# Altium integrated library NSC Audio.IntLib: 301 symbols (part 7 of 8)
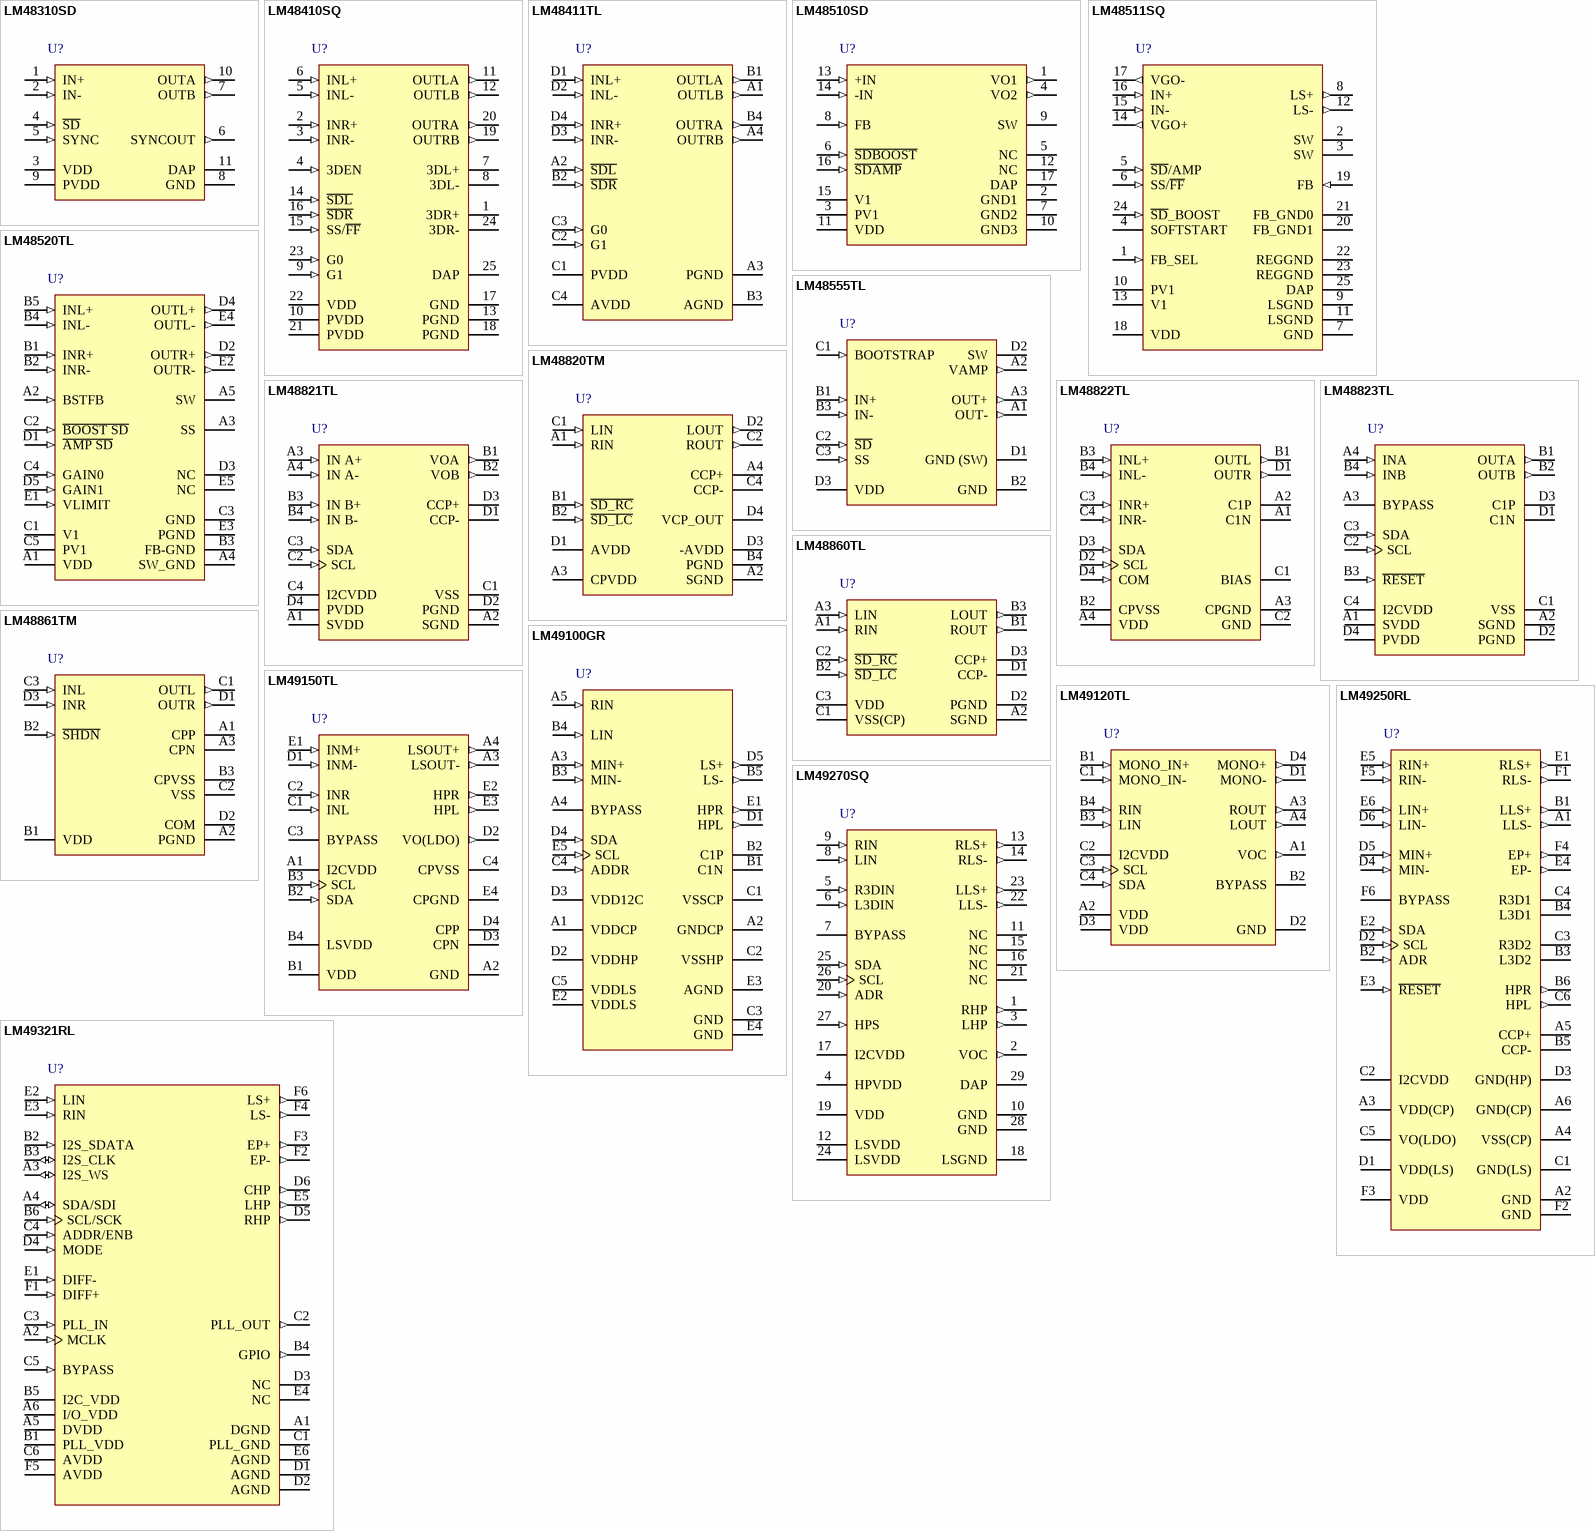
[diagram p18: symbols LM48310SD to LM49321RL]

## LM48410SQ
designator U?
Low EMI, Filterless, 2.3W Stereo Class D Audio Power Amplifier with National 3D Enhancement; PartNumber: LM48410SQ; Manufacturer: National Semiconductor; CompType: Audio IC; PackageTopMarking: NS*UZXYTT*L48410; Published: 4-Dec-2008; DatasheetVersion: Jul-2008; PackageVersion: revB, Aug-2003; PackageReference: SQA24A; PackageDescription: LLP, Plastic, Quad, 4 x 4 x 0.8mm Body, 24 Lead, 0.5mm Pitch, No Pullback; RoHS: Y; PinCount: 24; DigiKeyPartNumber: LM48410SQCT-ND; Code_JEDEC: MO-220-WGGD-6; ComponentLink1Description: LM48410 Datasheet; ComponentLink1URL: http://www.national.com/ds/LM/LM48410.pdf; ComponentLink2Description: LM48410 Web Page; ComponentLink2URL: http://www.national.com/pf/LM/LM48410.html; ComponentLink3Description: SQA24A Package Page; ComponentLink3URL: http://www.national.com/packaging/folders/sqa24a.html
footprint SQA24A (QFN, 24-Leads, Body 4x4mm, Pitch 0.5mm, NSC Recommended)
pins: 1 3DR+, 2 INR+ (in), 3 INR- (in), 4 3DEN (in), 5 INL- (in), 6 INL+ (in), 7 3DL+, 8 3DL-, 9 G1 (in), 10 PVDD (power), 11 OUTLA (out), 12 OUTLB (out), 13 PGND (power), 14 ~{SDL} (in), 15 SS/~{FF} (in), 16 ~{SDR} (in), 17 GND (power), 18 PGND (power), 19 OUTRB (out), 20 OUTRA (out), 21 PVDD (power), 22 VDD (power), 23 G0 (in), 24 3DR-, 25 DAP (power)

## LM48411TL
designator U?
Ultra-Low EMI, Filterless, 2.5W, Stereo, Class D Audio Power Amplifier with E 2 S; PartNumber: LM48411TL; Manufacturer: National Semiconductor; CompType: Audio IC; PackageTopMarking: XYTT*I GJ2; Published: 4-Dec-2008; DatasheetVersion: Jul-2008; PackageVersion: revC, Jan-2004; PackageReference: TLA16ACA; PackageDescription: Thin Micro SMD, 16 Bump (Large), 0.5mm Pitch; RoHS: Y; PinCount: 16; DigiKeyPartNumber: LM48411TLCT-ND; Code_JEDEC: MO-211-DF; ComponentLink1Description: LM48411 Datasheet; ComponentLink1URL: http://www.national.com/ds/LM/LM48411.pdf; ComponentLink2Description: LM48411 Web Page; ComponentLink2URL: http://www.national.com/pf/LM/LM48411.html; ComponentLink3Description: TLA16ACA Package Page; ComponentLink3URL: http://www.national.com/packaging/folders/tla16aca.html
footprint TLA16ACA (Micro SMD, 16-Leads, Body 2.05x2.0mm, Pitch 0.5mm, NSC Recommended)
pins: A1 OUTLB (out), A2 ~{SDL} (in), A3 PGND (power), A4 OUTRB (out), B1 OUTLA (out), B2 ~{SDR} (in), B3 AGND (power), B4 OUTRA (out), C1 PVDD (power), C2 G1 (in), C3 G0 (in), C4 AVDD (power), D1 INL+ (in), D2 INL- (in), D3 INR- (in), D4 INR+ (in)

## LM48510SD
designator U?
Boosted Class D Audio Power Amplifier; PartNumber: LM48510SD; Manufacturer: National Semiconductor; CompType: Audio IC; PackageTopMarking: NS*UZXYTT*L48510; Published: 4-Dec-2008; DatasheetVersion: Oct-2007; PackageVersion: revA, Dec-2004; PackageReference: SDA16B; PackageDescription: LLP, Plastic, Dual, 5 x 4 x 0.8mm, 16 Lead, 0.5mm Pitch, No Pullback; RoHS: Y; PinCount: 16; DigiKeyPartNumber: LM48510SDCT-ND; ComponentLink1Description: LM48510 Datasheet; ComponentLink1URL: http://www.national.com/ds/LM/LM48510.pdf; ComponentLink2Description: LM48510 Web Page; ComponentLink2URL: http://www.national.com/pf/LM/LM48510.html; ComponentLink3Description: SDA16B Package Page; ComponentLink3URL: http://www.national.com/packaging/folders/sda16b.html
footprint SDA16B (SON, 16-Leads, Body 5x4mm, Pitch 0.5mm, NSC Recommended)
pins: 1 VO1 (out), 2 GND1 (power), 3 PV1 (power), 4 VO2 (out), 5 NC, 6 ~{SDBOOST} (in), 7 GND2 (power), 8 FB (in), 9 SW, 10 GND3 (power), 11 VDD (power), 12 NC, 13 +IN (in), 14 -IN (in), 15 V1 (power), 16 ~{SDAMP} (in), 17 DAP (power)

## LM48511SQ
designator U?
3W, Ultra-Low EMI, Filterless, Mono, Class D Audio Power Amplifier with Spread  Spectrum; PartNumber: LM48511SQ; Manufacturer: National Semiconductor; CompType: Audio IC; PackageTopMarking: NS*UZXYTT*48511SQ; Published: 4-Dec-2008; DatasheetVersion: Feb-2008; PackageVersion: revA, Oct-2003; PackageReference: SQA24B; PackageDescription: LLP, Plastic, Quad, 5 x 4 x 0.8mm Body, 24 Lead, 0.5mm Pitch, No Pullback; RoHS: Y; PinCount: 24; DigiKeyPartNumber: LM48511SQCT-ND; Code_JEDEC: MO-220-WGHD-1; ComponentLink1Description: LM48511 Datasheet; ComponentLink1URL: http://www.national.com/ds/LM/LM48511.pdf; ComponentLink2Description: LM48511 Web Page; ComponentLink2URL: http://www.national.com/pf/LM/LM48511.html; ComponentLink3Description: SQA24B Package Page; ComponentLink3URL: http://www.national.com/packaging/folders/sqa24b.html
footprint SQA24B (QFN, 24-Leads, Body 5x4mm, Pitch 0.5mm, NSC Recommended)
pins: 1 FB_SEL (in), 2 SW (oc), 3 SW (oc), 4 SOFTSTART, 5 ~{SD}/AMP (in), 6 SS/~{FF} (in), 7 GND (power), 8 LS+ (out), 9 LSGND (power), 10 PV1 (power), 11 LSGND (power), 12 LS- (out), 13 V1 (power), 14 VGO+ (out), 15 IN- (in), 16 IN+ (in), 17 VGO- (out), 18 VDD (power), 19 FB (in), 20 FB_GND1 (power), 21 FB_GND0 (power), 22 REGGND (power), 23 REGGND (power), 24 ~{SD}_BOOST (in), 25 DAP (power)

## LM48520TL
designator U?
Boosted Stereo Class D Audio Power Amplifier with Output Speaker Protection and  Spread Spectrum; PartNumber: LM48520TL; Manufacturer: National Semiconductor; CompType: Audio IC; PackageTopMarking: XYTT*I GI5; Published: 4-Dec-2008; DatasheetVersion: Mar-2008; PackageVersion: revD, Dec-2003; PackageReference: TLA25AAA; PackageDescription: Thin Micro SMD, 25 Bump (Large), 0.5mm Pitch; RoHS: Y; PinCount: 25; DigiKeyPartNumber: LM48520TL-ND; Code_JEDEC: MO-211-DH; ComponentLink1Description: LM48520 Datasheet; ComponentLink1URL: http://www.national.com/ds/LM/LM48520.pdf; ComponentLink2Description: LM48520 Web Page; ComponentLink2URL: http://www.national.com/pf/LM/LM48520.html; ComponentLink3Description: TLA25AAA Package Page; ComponentLink3URL: http://www.national.com/packaging/folders/tla25aaa.html
footprint TLA25AAA (Micro SMD, 25-Leads, Body 2.49x2.49mm, Pitch 0.5mm, NSC Recommended)
pins: A1 VDD (power), A2 BSTFB (in), A3 SS, A4 SW_GND (power), A5 SW, B1 INR+ (in), B2 INR- (in), B3 FB-GND (power), B4 INL- (in), B5 INL+ (in), C1 V1 (power), C2 ~{BOOST SD} (in), C3 GND (power), C4 GAIN0 (in), C5 PV1 (power), D1 ~{AMP SD} (in), D2 OUTR+ (out), D3 NC, D4 OUTL+ (out), D5 GAIN1 (in), E1 VLIMIT (in), E2 OUTR- (out), E3 PGND (power), E4 OUTL- (out), E5 NC

## LM48555TL
designator U?
Ceramic Speaker Driver; PartNumber: LM48555TL; Manufacturer: National Semiconductor; CompType: Audio IC; PackageTopMarking: XVG*I I4; Published: 4-Dec-2008; DatasheetVersion: Mar-2007; PackageVersion: revC, Jan-2004; PackageReference: TLA12Z1A; PackageDescription: Thin Micro SMD, 12 Bump (Large), Area Array, 0.5mm Pitch; RoHS: Y; PinCount: 12; DigiKeyPartNumber: LM48555TLCT-ND; Code_JEDEC: MO-211-DE; ComponentLink1Description: LM48555 Datasheet; ComponentLink1URL: http://www.national.com/ds/LM/LM48555.pdf; ComponentLink2Description: LM48555 Web Page; ComponentLink2URL: http://www.national.com/pf/LM/LM48555.html; ComponentLink3Description: TLA12Z1A Package Page; ComponentLink3URL: http://www.national.com/packaging/folders/tla12z1a.html
footprint TLA12Z1A (Micro SMD, 12-Leads, Body 1.97x1.47mm, Pitch 0.5mm, NSC Recommended)
pins: A1 OUT- (out), A2 VAMP (out), A3 OUT+ (out), B1 IN+ (in), B2 GND (power), B3 IN- (in), C1 BOOTSTRAP (in), C2 ~{SD} (in), C3 SS (in), D1 GND (SW) (power), D2 SW (oc), D3 VDD (power)

## LM48820TM
designator U?
Ground-Referenced, Ultra Low Noise, Fixed Gain, 95mW Stereo Headphone Amplifier; PartNumber: LM48820TM; Manufacturer: National Semiconductor; CompType: Audio IC; PackageTopMarking: XYTT*I GI7; Published: 4-Dec-2008; DatasheetVersion: Jun-2007; PackageVersion: revA, 2007; PackageReference: TME14AAA; PackageDescription: Thin Micro SMD, Depopulated, 14 Bump, 0.4mm Pitch; RoHS: Y; PinCount: 14; DigiKeyPartNumber: LM48820TMCT-ND; ComponentLink1Description: LM48820 Datasheet; ComponentLink1URL: http://www.national.com/ds/LM/LM48820.pdf; ComponentLink2Description: LM48820 Web Page; ComponentLink2URL: http://www.national.com/pf/LM/LM48820.html; ComponentLink3Description: TME14AAA Package Page; ComponentLink3URL: http://www.national.com/packaging/folders/tme14aaa.html
footprint TME14AAA (Micro SMD, 14-Leads, Body 1.62x1.62mm, Pitch 0.4mm, NSC Recommended)
pins: A1 RIN (in), A2 SGND (power), A3 CPVDD (power), A4 CCP+, B1 ~{SD_RC} (in), B2 ~{SD_LC} (in), B4 PGND (power), C1 LIN (in), C2 ROUT (out), C4 CCP-, D1 AVDD (power), D2 LOUT (out), D3 -AVDD (power), D4 VCP_OUT (power)

## LM48821TL
designator U?
Direct Coupled, Ultra Low Noise, 52mW Differential Input Stereo Headphone Amplifier with I2C Volume Control; PartNumber: LM48821TL; Manufacturer: National Semiconductor; CompType: Audio IC; PackageTopMarking: XYTT*I G16; Published: 4-Dec-2008; DatasheetVersion: Jun-2007; PackageVersion: revC, Jan-2004; PackageReference: TLA1611A; PackageDescription: Thin Micro SMD, 16 Bump (Large), 0.5mm Pitch; RoHS: Y; PinCount: 16; DigiKeyPartNumber: LM48821TLCT-ND; Code_JEDEC: MO-211-DF; ComponentLink1Description: LM48821 Datasheet; ComponentLink1URL: http://www.national.com/ds/LM/LM48821.pdf; ComponentLink2Description: LM48821 Web Page; ComponentLink2URL: http://www.national.com/pf/LM/LM48821.html; ComponentLink3Description: TLA1611A Package Page; ComponentLink3URL: http://www.national.com/packaging/folders/tla1611a.html
footprint TLA1611A (Micro SMD, 16-Leads, Body 1.97x1.97mm, Pitch 0.5mm, NSC Recommended)
pins: A1 SVDD (power), A2 SGND (power), A3 IN A+ (in), A4 IN A- (in), B1 VOA (out), B2 VOB (out), B3 IN B+ (in), B4 IN B- (in), C1 VSS (power), C2 SCL (in), C3 SDA (in), C4 I2CVDD (power), D1 CCP-, D2 PGND (power), D3 CCP+, D4 PVDD (power)

## LM48822TL
designator U?
Ground-Referenced, Ultra-High PSRR, Ultra Low Noise, 35mW/Channel Stereo Headphone AMplifier with Common Mode Sense, and I2C Volume Control; PartNumber: LM48822TL; Manufacturer: National Semiconductor; CompType: Audio IC; PackageTopMarking: XYTT*I GK1; Published: 4-Dec-2008; DatasheetVersion: Jul-2008; PackageVersion: revC, Jan-2004; PackageReference: TLA1611A; PackageDescription: Thin Micro SMD, 16 Bump (Large), 0.5mm Pitch; RoHS: Y; PinCount: 16; DigiKeyPartNumber: LM48822TL-ND; Code_JEDEC: MO-211-DF; ComponentLink1Description: LM48822 Datasheet; ComponentLink1URL: http://www.national.com/ds/LM/LM48822.pdf; ComponentLink2Description: LM48822 Web Page; ComponentLink2URL: http://www.national.com/pf/LM/LM48822.html; ComponentLink3Description: TLA1611A Package Page; ComponentLink3URL: http://www.national.com/packaging/folders/tla1611a.html
footprint TLA1611A (Micro SMD, 16-Leads, Body 1.97x1.97mm, Pitch 0.5mm, NSC Recommended)
pins: A1 C1N, A2 C1P, A3 CPGND (power), A4 VDD (power), B1 OUTL (out), B2 CPVSS (power), B3 INL+ (in), B4 INL- (in), C1 BIAS (power), C2 GND (power), C3 INR+ (in), C4 INR- (in), D1 OUTR (out), D2 SCL (in), D3 SDA (in), D4 COM (in)

## LM48823TL
designator U?
Mono, Bridge-Tied Load, Ceramic Speaker Driver with I2C Volume Control and Reset; PartNumber: LM48823TL; Manufacturer: National Semiconductor; CompType: Audio IC; PackageTopMarking: XYTT*I GK6; Published: 4-Dec-2008; DatasheetVersion: Jul-2008; PackageVersion: revC, Jan-2004; PackageReference: TLA1611A; PackageDescription: Thin Micro SMD, 16 Bump (Large), 0.5mm Pitch; RoHS: Y; PinCount: 16; Code_JEDEC: MO-211-DF; ComponentLink1Description: LM48823 Datasheet; ComponentLink1URL: http://www.national.com/ds/LM/LM48823.pdf; ComponentLink2Description: LM48823 Web Page; ComponentLink2URL: http://www.national.com/pf/LM/LM48823.html; ComponentLink3Description: TLA1611A Package Page; ComponentLink3URL: http://www.national.com/packaging/folders/tla1611a.html
footprint TLA1611A (Micro SMD, 16-Leads, Body 1.97x1.97mm, Pitch 0.5mm, NSC Recommended)
pins: A1 SVDD (power), A2 SGND (power), A3 BYPASS, A4 INA (in), B1 OUTA (out), B2 OUTB (out), B3 ~{RESET} (in), B4 INB (in), C1 VSS (power), C2 SCL (in), C3 SDA (in), C4 I2CVDD (power), D1 C1N, D2 PGND (power), D3 C1P, D4 PVDD (power)

## LM48860TL
designator U?
Ground-Referenced, Ultra Low Noise, Fixed Gain Stereo Headphone Amplifier; PartNumber: LM48860TL; Manufacturer: National Semiconductor; CompType: Audio IC; PackageTopMarking: XYTT*I GJ7; Published: 4-Dec-2008; DatasheetVersion: Feb-2008; PackageVersion: revC, Jan-2004; PackageReference: TLA12Z1A; PackageDescription: Thin Micro SMD, 12 Bump (Large), Area Array, 0.5mm Pitch; RoHS: Y; PinCount: 12; DigiKeyPartNumber: LM48860TL-ND; Code_JEDEC: MO-211-DE; ComponentLink1Description: LM48860 Datasheet; ComponentLink1URL: http://www.national.com/ds/LM/LM48860.pdf; ComponentLink2Description: LM48860 Web Page; ComponentLink2URL: http://www.national.com/pf/LM/LM48860.html; ComponentLink3Description: TLA12Z1A Package Page; ComponentLink3URL: http://www.national.com/packaging/folders/tla12z1a.html
footprint TLA12Z1A (Micro SMD, 12-Leads, Body 1.97x1.47mm, Pitch 0.5mm, NSC Recommended)
pins: A1 RIN (in), A2 SGND (power), A3 LIN (in), B1 ROUT (out), B2 ~{SD_LC} (in), B3 LOUT (out), C1 VSS(CP) (power), C2 ~{SD_RC} (in), C3 VDD (power), D1 CCP-, D2 PGND (power), D3 CCP+

## LM48861TM
designator U?
PowerWise Ground-Referenced, Ultra Low Noise, Stereo Headphone Amplifier; PartNumber: LM48861TM; Manufacturer: National Semiconductor; CompType: Audio IC; PackageTopMarking: XVG*I K3; Published: 4-Dec-2008; DatasheetVersion: Jun-2008; PackageVersion: revA, 2008; PackageReference: TMD12AAA; PackageDescription: Thin Micro SMD, 12 Bump, 0.4mm Pitch; RoHS: Y; PinCount: 12; DigiKeyPartNumber: LM48861TMBD-ND; ComponentLink1Description: LM48861 Datasheet; ComponentLink1URL: http://www.national.com/ds/LM/LM48861.pdf; ComponentLink2Description: LM48861 Web Page; ComponentLink2URL: http://www.national.com/pf/LM/LM48861.html; ComponentLink3Description: TMD12AAA Package Page; ComponentLink3URL: http://www.national.com/packaging/folders/tmd12aaa.html
footprint TMD12AAA (Micro SMD, 12-Leads, Body 1.62x1.22mm, Pitch 0.4mm, NSC Recommended)
pins: A1 CPP, A2 PGND (power), A3 CPN, B1 VDD (power), B2 ~{SHDN} (in), B3 CPVSS (power), C1 OUTL (out), C2 VSS (power), C3 INL (in), D1 OUTR (out), D2 COM (power), D3 INR (in)

## LM49100GR
designator U?
Mono Class AB Audio Sub-System with a True-Ground Headphone Amplifier; PartNumber: LM49100GR; Manufacturer: National Semiconductor; CompType: Audio IC; PackageTopMarking: XYTT*GC9; Published: 4-Dec-2008; DatasheetVersion: Sep-2007; PackageVersion: revA, Mar-2004; PackageReference: GRA25A; PackageDescription: Micro-Array, 3x3x1mm Body, 25 Ball, 0.5mm Pitch; RoHS: Y; PinCount: 25; DigiKeyPartNumber: LM49100GRCT-ND; ComponentLink1Description: LM49100 Datasheet; ComponentLink1URL: http://www.national.com/ds/LM/LM49100.pdf; ComponentLink2Description: LM49100 Web Page; ComponentLink2URL: http://www.national.com/pf/LM/LM49100.html; ComponentLink3Description: GRA25A Package Page; ComponentLink3URL: http://www.national.com/packaging/folders/gra25a.html
footprint GRA25A (BGA, 25-Leads, Body 3x3mm, Pitch 0.5mm, NSC Recommended)
pins: A1 VDDCP (power), A2 GNDCP (power), A3 MIN+ (in), A4 BYPASS, A5 RIN (in), B1 C1N, B2 C1P, B3 MIN- (in), B4 LIN (in), B5 LS- (out), C1 VSSCP (power), C2 VSSHP (power), C3 GND (power), C4 ADDR (in), C5 VDDLS (power), D1 HPL (out), D2 VDDHP (power), D3 VDD12C (power), D4 SDA (in), D5 LS+ (out), E1 HPR (out), E2 VDDLS (power), E3 AGND (power), E4 GND (power), E5 SCL (in)

## LM49120TL
designator U?
Audio Sub-System with Mono Class AB Loudspeaker Amplifier and Stereo OCL/SE Headphone Amplifier; PartNumber: LM49120TL; Manufacturer: National Semiconductor; CompType: Audio IC; PackageTopMarking: XYTT*I GK2; Published: 4-Dec-2008; DatasheetVersion: Jul-2008; PackageVersion: revC, Jan-2004; PackageReference: TLA1611A; PackageDescription: Thin Micro SMD, 16 Bump (Large), 0.5mm Pitch; RoHS: Y; PinCount: 16; Code_JEDEC: MO-211-DF; ComponentLink1Description: LM49120 Datasheet; ComponentLink1URL: http://www.national.com/ds/LM/LM49120.pdf; ComponentLink2Description: LM49120 Web Page; ComponentLink2URL: http://www.national.com/pf/LM/LM49120.html; ComponentLink3Description: TLA1611A Package Page; ComponentLink3URL: http://www.national.com/packaging/folders/tla1611a.html
footprint TLA1611A (Micro SMD, 16-Leads, Body 1.97x1.97mm, Pitch 0.5mm, NSC Recommended)
pins: A1 VOC (out), A2 VDD (power), A3 ROUT (out), A4 LOUT (out), B1 MONO_IN+ (in), B2 BYPASS, B3 LIN (in), B4 RIN (in), C1 MONO_IN- (in), C2 I2CVDD (power), C3 SCL (in), C4 SDA (in), D1 MONO- (out), D2 GND (power), D3 VDD (power), D4 MONO+ (out)

## LM49150TL
designator U?
Mono Class D Audio Subsystem with Earpiece Driver and Stereo Ground Referenced Headphone Amplifiers; PartNumber: LM49150TL; Manufacturer: National Semiconductor; CompType: Audio IC; PackageTopMarking: XYTT*I GK7; Published: 4-Dec-2008; DatasheetVersion: Sep-2008; PackageVersion: revC, Jan-2004; PackageReference: TLA20KGA; PackageDescription: Thin Micro SMD, 20 Bump (Large), 0.5mm Pitch; RoHS: Y; PinCount: 20; Code_JEDEC: MO-211-DG; ComponentLink1Description: LM49150 Datasheet; ComponentLink1URL: http://www.national.com/ds/LM/LM49150.pdf; ComponentLink2Description: LM49150 Web Page; ComponentLink2URL: http://www.national.com/pf/LM/LM49150.html; ComponentLink3Description: TLA20KGA Package Page; ComponentLink3URL: http://www.national.com/packaging/folders/tla20kga.html
footprint TLA20KGA (Micro SMD, 20-Leads, Body 2.64x2.23mm, Pitch 0.5mm, NSC Recommended)
pins: A1 I2CVDD (power), A2 GND (power), A3 LSOUT- (out), A4 LSOUT+ (out), B1 VDD (power), B2 SDA (in), B3 SCL (in), B4 LSVDD (power), C1 INL (in), C2 INR (in), C3 BYPASS, C4 CPVSS (power), D1 INM- (in), D2 VO(LDO) (out), D3 CPN, D4 CPP, E1 INM+ (in), E2 HPR (out), E3 HPL (out), E4 CPGND (power)

## LM49250RL
designator U?
Enhanced Emissions Suppression Stereo Class D Audio Sub-System with Ground Referenced Headphone Amplifier; PartNumber: LM49250RL; Manufacturer: National Semiconductor; CompType: Audio IC; PackageTopMarking: XYTT*I GJ1; Published: 4-Dec-2008; DatasheetVersion: Jan-2008; PackageVersion: revA, 2008; PackageReference: RLA36CCA; PackageDescription: Micro SMDxt, 36 Bump (Large), 0.5mm Pitch; RoHS: Y; PinCount: 36; DigiKeyPartNumber: LM49250RL-ND; ComponentLink1Description: LM49250 Datasheet; ComponentLink1URL: http://www.national.com/ds/LM/LM49250.pdf; ComponentLink2Description: LM49250 Web Page; ComponentLink2URL: http://www.national.com/pf/LM/LM49250.html; ComponentLink3Description: RLA36CCA Package Page; ComponentLink3URL: http://www.national.com/packaging/folders/rla36cca.html
footprint RLA36CCA (Micro SMD, 36-Leads, Body 3.05x3.05mm, Pitch 0.5mm, NSC Recommended)
pins: A1 LLS- (out), A2 GND (power), A3 VDD(CP) (power), A4 VSS(CP) (power), A5 CCP+, A6 GND(CP) (power), B1 LLS+ (out), B2 ADR (in), B3 L3D2, B4 L3D1, B5 CCP-, B6 HPR (out), C1 GND(LS) (power), C2 I2CVDD (power), C3 R3D2, C4 R3D1, C5 VO(LDO) (power), C6 HPL (out), D1 VDD(LS) (power), D2 SCL (in), D3 GND(HP) (power), D4 MIN- (in), D5 MIN+ (in), D6 LIN- (in), E1 RLS+ (out), E2 SDA (in), E3 ~{RESET} (in), E4 EP- (out), E5 RIN+ (in), E6 LIN+ (in), F1 RLS- (out), F2 GND (power), F3 VDD (power), F4 EP+ (out), F5 RIN- (in), F6 BYPASS

## LM49270SQ
designator U?
Filterless 2.2W Class D Audio Subsystem with OCL Headphone Amplifier, 3D Enhancement, and Headphone Sense; PartNumber: LM49270SQ; Manufacturer: National Semiconductor; CompType: Audio IC; PackageTopMarking: NS*UZXYTT*49270SQ; Published: 4-Dec-2008; DatasheetVersion: Dec-2006; PackageVersion: revB, Aug-2003; PackageReference: SQA28A; PackageDescription: LLP, Plastic, Quad, 5 x 5 x 0.8mm Body, 28 Lead, 0.5mm Pitch, No Pullback; RoHS: Y; PinCount: 28; DigiKeyPartNumber: LM49270SQCT-ND; Code_JEDEC: MO-220-WHHD-3; ComponentLink1Description: LM49270 Datasheet; ComponentLink1URL: http://www.national.com/ds/LM/LM49270.pdf; ComponentLink2Description: LM49270 Web Page; ComponentLink2URL: http://www.national.com/pf/LM/LM49270.html; ComponentLink3Description: SQA28A Package Page; ComponentLink3URL: http://www.national.com/packaging/folders/sqa28a.html
footprint SQA28A (QFN, 28-Leads, Body 5x5mm, Pitch 0.5mm, NSC Recommended)
pins: 1 RHP (out), 2 VOC (out), 3 LHP (out), 4 HPVDD (power), 5 R3DIN (in), 6 L3DIN (in), 7 BYPASS, 8 LIN (in), 9 RIN (in), 10 GND (power), 11 NC, 12 LSVDD (power), 13 RLS+ (out), 14 RLS- (out), 15 NC, 16 NC, 17 I2CVDD (power), 18 LSGND (power), 19 VDD (power), 20 ADR (in), 21 NC, 22 LLS- (out), 23 LLS+ (out), 24 LSVDD (power), 25 SDA (in), 26 SCL (in), 27 HPS (in), 28 GND (power), 29 DAP (power)

## LM49321RL
designator U?
Audio Sub-System with Stereo DAC, Mono Class AB Loudspeaker Amplifier, OCL/SE Stereo Headphone Output and RF Suppression; PartNumber: LM49321RL; Manufacturer: National Semiconductor; CompType: Audio IC; PackageTopMarking: XYTT*I GK9; Published: 4-Dec-2008; DatasheetVersion: Sep-2008; PackageVersion: revA, 2007; PackageReference: RLA36LVA; PackageDescription: Micro SMDxt, 36 Bump (Large), 0.5mm Pitch; RoHS: Y; PinCount: 36; ComponentLink1Description: LM49321 Datasheet; ComponentLink1URL: http://www.national.com/ds/LM/LM49321.pdf; ComponentLink2Description: LM49321 Web Page; ComponentLink2URL: http://www.national.com/pf/LM/LM49321.html; ComponentLink3Description: RLA36LVA Package Page; ComponentLink3URL: http://www.national.com/packaging/folders/rla36lva.html
footprint RLA36LVA (Micro SMD, 36-Leads, Body 3.51x3.26mm, Pitch 0.5mm, NSC Recommended)
pins: A1 DGND (power), A2 MCLK (in), A3 I2S_WS (io), A4 SDA/SDI (io), A5 DVDD (power), A6 I/O_VDD (power), B1 PLL_VDD (power), B2 I2S_SDATA (in), B3 I2S_CLK (io), B4 GPIO (out), B5 I2C_VDD (power), B6 SCL/SCK (in), C1 PLL_GND (power), C2 PLL_OUT (out), C3 PLL_IN (in), C4 ADDR/ENB (in), C5 BYPASS (in), C6 AVDD (power), D1 AGND (power), D2 AGND (power), D3 NC, D4 MODE (in), D5 RHP (out), D6 CHP (out), E1 DIFF- (in), E2 LIN (in), E3 RIN (in), E4 NC, E5 LHP (out), E6 AGND (power), F1 DIFF+ (in), F2 EP- (out), F3 EP+ (out), F4 LS- (out), F5 AVDD (power), F6 LS+ (out)

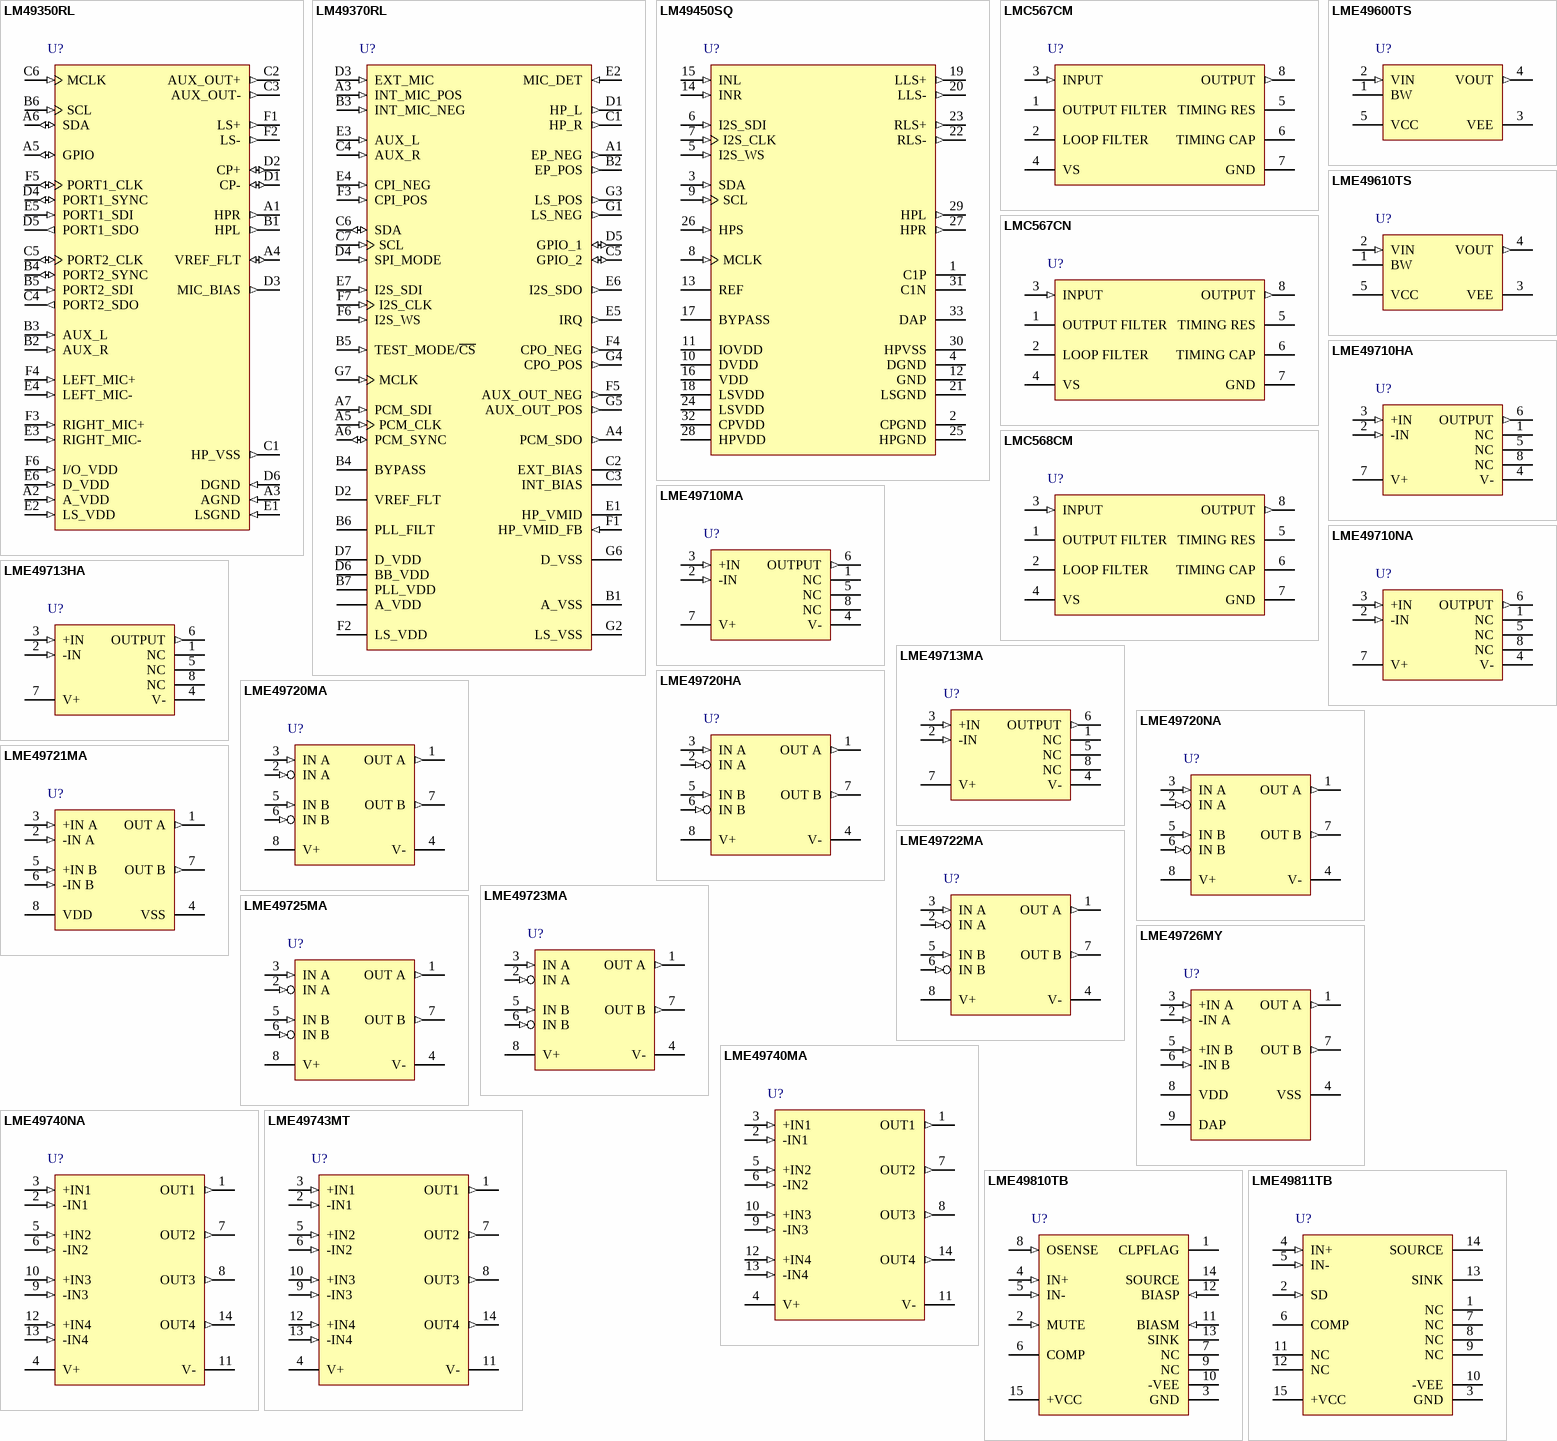
[diagram p11: symbols LM49350RL to LME49811TB]

## LM49350RL
designator U?
High Performance Audio Codec Sub-System with a Ground-Referenced Stereo Headphone Amplifier & Ultra Low EMI Class D Loudspeaker Amplifier with Dual I2S/PCM Digital Audio Interfaces; PartNumber: LM49350RL; Manufacturer: National Semiconductor; CompType: Audio IC; PackageTopMarking: XYTT*I GJ8; Published: 4-Dec-2008; DatasheetVersion: Sep-2008; PackageVersion: revA, 2008; PackageReference: RLA36TTA; PackageDescription: Micro SMDxt, 36 Bump (Large), 0.5mm Pitch; RoHS: Y; PinCount: 36; ComponentLink1Description: LM49350 Datasheet; ComponentLink1URL: http://www.national.com/ds/LM/LM49350.pdf; ComponentLink2Description: LM49350 Web Page; ComponentLink2URL: http://www.national.com/pf/LM/LM49350.html; ComponentLink3Description: RLA36TTA Package Page; ComponentLink3URL: http://www.national.com/packaging/folders/rla36tta.html
footprint RLA36TTA (Micro SMD, 36-Leads, Body 3.46x3.46mm, Pitch 0.5mm, NSC Recommended)
pins: A1 HPR (out), A2 A_VDD (in), A3 AGND (in), A4 VREF_FLT (io), A5 GPIO (io), A6 SDA (io), B1 HPL (out), B2 AUX_R (in), B3 AUX_L (in), B4 PORT2_SYNC (io), B5 PORT2_SDI (in), B6 SCL (in), C1 HP_VSS (out), C2 AUX_OUT+ (out), C3 AUX_OUT- (out), C4 PORT2_SDO (out), C5 PORT2_CLK (io), C6 MCLK (in), D1 CP- (io), D2 CP+ (io), D3 MIC_BIAS (out), D4 PORT1_SYNC (io), D5 PORT1_SDO (out), D6 DGND (in), E1 LSGND (in), E2 LS_VDD (in), E3 RIGHT_MIC- (in), E4 LEFT_MIC- (in), E5 PORT1_SDI (in), E6 D_VDD (in), F1 LS+ (out), F2 LS- (out), F3 RIGHT_MIC+ (in), F4 LEFT_MIC+ (in), F5 PORT1_CLK (io), F6 I/O_VDD (in)

## LM49370RL
designator U?
Boomer Audio Power Amplifier Series Audio Sub-System with an Ultra Low EMI, Spread Spectrum, Class D Loudspeaker Amplifier, a Dual-Mode Stereo Headphone Amplifier, and a Dedicated Interface for Bluetooth Transceivers; PartNumber: LM49370RL; Manufacturer: National Semiconductor; CompType: Audio IC; PackageTopMarking: XYTT*I GI3; Published: 4-Dec-2008; DatasheetVersion: Feb-2008; PackageVersion: revB, Dec-2005; PackageReference: RLA49UUA; PackageDescription: Micro SMDxt, 49 Bump (Large), 0.5mm Pitch; RoHS: Y; PinCount: 49; DigiKeyPartNumber: LM49370RLCT-ND; ComponentLink1Description: LM49370 Datasheet; ComponentLink1URL: http://www.national.com/ds/LM/LM49370.pdf; ComponentLink2Description: LM49370 Web Page; ComponentLink2URL: http://www.national.com/pf/LM/LM49370.html; ComponentLink3Description: RLA49UUA Package Page; ComponentLink3URL: http://www.national.com/packaging/folders/rla49uua.html
footprint RLA49UUA (Micro SMD, 49-Leads, Body 3.93x3.93mm, Pitch 0.5mm, NSC Recommended)
pins: A1 EP_NEG (out), A2 A_VDD (power), A3 INT_MIC_POS (in), A4 PCM_SDO (out), A5 PCM_CLK (in), A6 PCM_SYNC (io), A7 PCM_SDI (in), B1 A_VSS (power), B2 EP_POS (out), B3 INT_MIC_NEG (in), B4 BYPASS, B5 TEST_MODE/~{CS} (in), B6 PLL_FILT, B7 PLL_VDD (power), C1 HP_R (out), C2 EXT_BIAS (power), C3 INT_BIAS (power), C4 AUX_R (in), C5 GPIO_2 (io), C6 SDA (io), C7 SCL (in), D1 HP_L (out), D2 VREF_FLT, D3 EXT_MIC (in), D4 SPI_MODE (in), D5 GPIO_1 (io), D6 BB_VDD (power), D7 D_VDD (power), E1 HP_VMID (power), E2 MIC_DET (in), E3 AUX_L (in), E4 CPI_NEG (in), E5 IRQ (out), E6 I2S_SDO (out), E7 I2S_SDI (in), F1 HP_VMID_FB (in), F2 LS_VDD (power), F3 CPI_POS (in), F4 CPO_NEG (out), F5 AUX_OUT_NEG (out), F6 I2S_WS (in), F7 I2S_CLK (in), G1 LS_NEG (out), G2 LS_VSS (power), G3 LS_POS (out), G4 CPO_POS (out), G5 AUX_OUT_POS (out), G6 D_VSS (power), G7 MCLK (in)

## LM49450SQ
designator U?
I2S Input, 2.5W/Channel, Low EMI, Stereo, Class D Audio Sub-System with Ground Referenced Headphone Amplifier, 3D Enhancement, and Headphone Sense; PartNumber: LM49450SQ; Manufacturer: National Semiconductor; CompType: Audio IC; PackageTopMarking: NS*UZXYTT*L49450; Published: 4-Dec-2008; DatasheetVersion: Feb-2008; PackageVersion: revA, Jul-2004; PackageReference: SQA32A; PackageDescription: LLP, Quad, 5 x 5 x 0.8mm, 32 Lead, 0.5mm Pitch, No Pullback 3.1 x 3.1 Exposed Pad; RoHS: Y; PinCount: 32; DigiKeyPartNumber: LM49450SQ-ND; ComponentLink1Description: LM49450 Datasheet; ComponentLink1URL: http://www.national.com/ds/LM/LM49450.pdf; ComponentLink2Description: LM49450 Web Page; ComponentLink2URL: http://www.national.com/pf/LM/LM49450.html; ComponentLink3Description: SQA32A Package Page; ComponentLink3URL: http://www.national.com/packaging/folders/sqa32a.html
footprint SQA32A (QFN, 32-Leads, Body 5x5mm, Pitch 0.5mm, NSC Recommended)
pins: 1 C1P, 2 CPGND (power), 3 SDA (in), 4 DGND (power), 5 I2S_WS (in), 6 I2S_SDI (in), 7 I2S_CLK (in), 8 MCLK (in), 9 SCL (in), 10 DVDD (power), 11 IOVDD (power), 12 GND (power), 13 REF, 14 INR (in), 15 INL (in), 16 VDD (power), 17 BYPASS, 18 LSVDD (power), 19 LLS+ (out), 20 LLS- (out), 21 LSGND (power), 22 RLS- (out), 23 RLS+ (out), 24 LSVDD (power), 25 HPGND (power), 26 HPS (in), 27 HPR (out), 28 HPVDD (power), 29 HPL (out), 30 HPVSS (power), 31 C1N, 32 CPVDD (power), 33 DAP (power)

## LMC567CM
designator U?
Low Power Tone Decoder; PartNumber: LMC567CM; Manufacturer: National Semiconductor; CompType: Audio IC; PackageTopMarking: NSZXTT*LMC*567CM; Published: 4-Dec-2008; DatasheetVersion: Jul-1999; PackageVersion: revL, Sep-2006; PackageReference: M08A; PackageDescription: SOIC Narrow, 4.9 x 3.9 x 1.45mm, 8 Lead, 1.27mm Pitch; RoHS: O; PinCount: 8; DigiKeyPartNumber: LMC567CM-ND; Code_JEDEC: MS-012-AA; Code_IPC: SOIC127P600-8; ComponentLink1Description: LMC567 Datasheet; ComponentLink1URL: http://www.national.com/ds/LM/LMC567.pdf; ComponentLink2Description: LMC567 Web Page; ComponentLink2URL: http://www.national.com/pf/LM/LMC567.html; ComponentLink3Description: M08A Package Page; ComponentLink3URL: http://www.national.com/packaging/folders/m08a.html
footprint M08A_N (SOIC, 8-Leads, Body 4.9x3.9mm, Pitch 1.27mm, IPC Medium Density)
footprint M08A_L (SOIC, 8-Leads, Body 4.9x3.9mm, Pitch 1.27mm, IPC High Density)
footprint M08A_M (SOIC, 8-Leads, Body 4.9x3.9mm, Pitch 1.27mm, IPC Low Density)
pins: 1 OUTPUT FILTER, 2 LOOP FILTER, 3 INPUT (in), 4 VS (power), 5 TIMING RES, 6 TIMING CAP, 7 GND (power), 8 OUTPUT (out)

## LMC567CN
designator U?
Low Power Tone Decoder; PartNumber: LMC567CN; Manufacturer: National Semiconductor; CompType: Audio IC; PackageTopMarking: NSUZXYTT*LMC*567CN; Published: 4-Dec-2008; DatasheetVersion: Jul-1999; PackageVersion: revG, May-2006; PackageReference: N08E; PackageDescription: MDIP, .365 x .250 x .130in, 8 Lead, .100in Pitch; RoHS: O; PinCount: 8; DigiKeyPartNumber: LMC567CN-ND; Code_JEDEC: MS-001-BA; ComponentLink1Description: LMC567 Datasheet; ComponentLink1URL: http://www.national.com/ds/LM/LMC567.pdf; ComponentLink2Description: LMC567 Web Page; ComponentLink2URL: http://www.national.com/pf/LM/LMC567.html; ComponentLink3Description: N08E Package Page; ComponentLink3URL: http://www.national.com/packaging/folders/n08e.html
footprint N08E (DIP, 8-Leads, Row Spacing 7.62mm, Pitch 2.54mm, Body 9.91x6.35mm)
pins: 1 OUTPUT FILTER, 2 LOOP FILTER, 3 INPUT (in), 4 VS (power), 5 TIMING RES, 6 TIMING CAP, 7 GND (power), 8 OUTPUT (out)

## LMC568CM
designator U?
Low Power Phase-Locked Loop; PartNumber: LMC568CM; Manufacturer: National Semiconductor; CompType: Audio IC; PackageTopMarking: NSZXTT*LMC*568CM; Published: 4-Dec-2008; DatasheetVersion: May-1999; PackageVersion: revL, Sep-2006; PackageReference: M08A; PackageDescription: SOIC Narrow, 4.9 x 3.9 x 1.45mm, 8 Lead, 1.27mm Pitch; RoHS: O; PinCount: 8; DigiKeyPartNumber: LMC568CM-ND; Code_JEDEC: MS-012-AA; Code_IPC: SOIC127P600-8; ComponentLink1Description: LMC568 Datasheet; ComponentLink1URL: http://www.national.com/ds/LM/LMC568.pdf; ComponentLink2Description: LMC568 Web Page; ComponentLink2URL: http://www.national.com/pf/LM/LMC568.html; ComponentLink3Description: M08A Package Page; ComponentLink3URL: http://www.national.com/packaging/folders/m08a.html
footprint M08A_N (SOIC, 8-Leads, Body 4.9x3.9mm, Pitch 1.27mm, IPC Medium Density)
footprint M08A_L (SOIC, 8-Leads, Body 4.9x3.9mm, Pitch 1.27mm, IPC High Density)
footprint M08A_M (SOIC, 8-Leads, Body 4.9x3.9mm, Pitch 1.27mm, IPC Low Density)
pins: 1 OUTPUT FILTER, 2 LOOP FILTER, 3 INPUT (in), 4 VS (power), 5 TIMING RES, 6 TIMING CAP, 7 GND (power), 8 OUTPUT (out)

## LME49600TS
designator U?
High Performance, High Fidelity, High Current Audio Buffer; PartNumber: LME49600TS; Manufacturer: National Semiconductor; CompType: Audio IC; PackageTopMarking: NSUZXYTTE#*LME49600*TS; Published: 4-Dec-2008; DatasheetVersion: Mar-2008; PackageVersion: revD, Apr-2005; PackageReference: TS5B; PackageDescription: TO-263, Molded, .400 x .390 x .180in, 5 Lead, .067in Pitch, Surface Mount; RoHS: Y; PinCount: 5; DigiKeyPartNumber: LME49600TS-ND; Code_JEDEC: MO-169-AB; ComponentLink1Description: LME49600 Datasheet; ComponentLink1URL: http://www.national.com/ds/LM/LME49600.pdf; ComponentLink2Description: LME49600 Web Page; ComponentLink2URL: http://www.national.com/pf/LM/LME49600.html; ComponentLink3Description: TS5B Package Page; ComponentLink3URL: http://www.national.com/packaging/folders/ts5b.html
footprint TS5B_N (D2-PAK, 6-Leads, Body 8.6x10.2mm, Pitch 1.7mm, Lead Span 14.1mm, IPC Medium Density)
footprint TS5B_L (D2-PAK, 6-Leads, Body 8.6x10.2mm, Pitch 1.7mm, Lead Span 14.1mm, IPC High Density)
footprint TS5B_M (D2-PAK, 6-Leads, Body 8.6x10.2mm, Pitch 1.7mm, Lead Span 14.1mm, IPC Low Density)
pins: 1 BW, 2 VIN (in), 3 VEE (power), 4 VOUT (out), 5 VCC (power)

## LME49610TS
designator U?
High Performance, High Fidelity, High Current Audio Buffer; PartNumber: LME49610TS; Manufacturer: National Semiconductor; CompType: Audio IC; PackageTopMarking: NSUZXYTTE#*LME49610*TS; Published: 4-Dec-2008; DatasheetVersion: Apr-2008; PackageVersion: revD, Apr-2005; PackageReference: TS5B; PackageDescription: TO-263, Molded, .400 x .390 x .180in, 5 Lead, .067in Pitch, Surface Mount; RoHS: Y; PinCount: 5; Code_JEDEC: MO-169-AB; ComponentLink1Description: LME49610 Datasheet; ComponentLink1URL: http://www.national.com/ds/LM/LME49610.pdf; ComponentLink2Description: LME49610 Web Page; ComponentLink2URL: http://www.national.com/pf/LM/LME49610.html; ComponentLink3Description: TS5B Package Page; ComponentLink3URL: http://www.national.com/packaging/folders/ts5b.html
footprint TS5B_N (D2-PAK, 6-Leads, Body 8.6x10.2mm, Pitch 1.7mm, Lead Span 14.1mm, IPC Medium Density)
footprint TS5B_L (D2-PAK, 6-Leads, Body 8.6x10.2mm, Pitch 1.7mm, Lead Span 14.1mm, IPC High Density)
footprint TS5B_M (D2-PAK, 6-Leads, Body 8.6x10.2mm, Pitch 1.7mm, Lead Span 14.1mm, IPC Low Density)
pins: 1 BW, 2 VIN (in), 3 VEE (power), 4 VOUT (out), 5 VCC (power)

## LME49710HA
designator U?
High Performance, High Fidelity Audio Operational Amplifier; PartNumber: LME49710HA; Manufacturer: National Semiconductor; CompType: Audio IC; PackageTopMarking: NSZXYTTE#*LME*49710HA; Published: 4-Dec-2008; DatasheetVersion: Mar-2007; PackageVersion: revF, Jun-1995; PackageReference: H08C; PackageDescription: Metal Can, TO-99, 8 Lead, .200 Dia., P.C.; RoHS: Y; PinCount: 8; DigiKeyPartNumber: LME49710HA-ND; Code_JEDEC: TO-99; ComponentLink1Description: LME49710 Datasheet; ComponentLink1URL: http://www.national.com/ds/LM/LME49710.pdf; ComponentLink2Description: LME49710 Web Page; ComponentLink2URL: http://www.national.com/pf/LM/LME49710.html; ComponentLink3Description: H08C Package Page; ComponentLink3URL: http://www.national.com/packaging/folders/h08c.html
footprint H08C (Can; 8 Leads; Pin Circle Dia. 5.08 mm; Lead Dia. 0.48 mm (max))
pins: 1 NC, 2 -IN (in), 3 +IN (in), 4 V- (power), 5 NC, 6 OUTPUT (out), 7 V+ (power), 8 NC

## LME49710MA
designator U?
High Performance, High Fidelity Audio Operational Amplifier; PartNumber: LME49710MA; Manufacturer: National Semiconductor; CompType: Audio IC; PackageTopMarking: NSZXTT*L49710*MA; Published: 4-Dec-2008; DatasheetVersion: Mar-2007; PackageVersion: revL, Sep-2006; PackageReference: M08A; PackageDescription: SOIC Narrow, 4.9 x 3.9 x 1.45mm, 8 Lead, 1.27mm Pitch; RoHS: Y; PinCount: 8; DigiKeyPartNumber: LME49710MA-ND; Code_JEDEC: MS-012-AA; Code_IPC: SOIC127P600-8; ComponentLink1Description: LME49710 Datasheet; ComponentLink1URL: http://www.national.com/ds/LM/LME49710.pdf; ComponentLink2Description: LME49710 Web Page; ComponentLink2URL: http://www.national.com/pf/LM/LME49710.html; ComponentLink3Description: M08A Package Page; ComponentLink3URL: http://www.national.com/packaging/folders/m08a.html
footprint M08A_N (SOIC, 8-Leads, Body 4.9x3.9mm, Pitch 1.27mm, IPC Medium Density)
footprint M08A_L (SOIC, 8-Leads, Body 4.9x3.9mm, Pitch 1.27mm, IPC High Density)
footprint M08A_M (SOIC, 8-Leads, Body 4.9x3.9mm, Pitch 1.27mm, IPC Low Density)
pins: 1 NC, 2 -IN (in), 3 +IN (in), 4 V- (power), 5 NC, 6 OUTPUT (out), 7 V+ (power), 8 NC

## LME49710NA
designator U?
High Performance, High Fidelity Audio Operational Amplifier; PartNumber: LME49710NA; Manufacturer: National Semiconductor; CompType: Audio IC; PackageTopMarking: NSUZXYTT*LME*49710NA; Published: 4-Dec-2008; DatasheetVersion: Mar-2007; PackageVersion: revG, May-2006; PackageReference: N08E; PackageDescription: MDIP, .365 x .250 x .130in, 8 Lead, .100in Pitch; RoHS: Y; PinCount: 8; DigiKeyPartNumber: LME49710NA-ND; Code_JEDEC: MS-001-BA; ComponentLink1Description: LME49710 Datasheet; ComponentLink1URL: http://www.national.com/ds/LM/LME49710.pdf; ComponentLink2Description: LME49710 Web Page; ComponentLink2URL: http://www.national.com/pf/LM/LME49710.html; ComponentLink3Description: N08E Package Page; ComponentLink3URL: http://www.national.com/packaging/folders/n08e.html
footprint N08E (DIP, 8-Leads, Row Spacing 7.62mm, Pitch 2.54mm, Body 9.91x6.35mm)
pins: 1 NC, 2 -IN (in), 3 +IN (in), 4 V- (power), 5 NC, 6 OUTPUT (out), 7 V+ (power), 8 NC

## LME49713HA
designator U?
High Performance, High Fidelity Current Feedback Audio Operational Amplifier; PartNumber: LME49713HA; Manufacturer: National Semiconductor; CompType: Audio IC; PackageTopMarking: NSZXYTTE#*LME*49713HA; Published: 4-Dec-2008; DatasheetVersion: Aug-2008; PackageVersion: revF, Jun-1995; PackageReference: H08C; PackageDescription: Metal Can, TO-99, 8 Lead, .200 Dia., P.C.; RoHS: Y; PinCount: 8; Code_JEDEC: TO-99; ComponentLink1Description: LME49713 Datasheet; ComponentLink1URL: http://www.national.com/ds/LM/LME49713.pdf; ComponentLink2Description: LME49713 Web Page; ComponentLink2URL: http://www.national.com/pf/LM/LME49713.html; ComponentLink3Description: H08C Package Page; ComponentLink3URL: http://www.national.com/packaging/folders/h08c.html
footprint H08C (Can; 8 Leads; Pin Circle Dia. 5.08 mm; Lead Dia. 0.48 mm (max))
pins: 1 NC, 2 -IN (in), 3 +IN (in), 4 V- (power), 5 NC, 6 OUTPUT (out), 7 V+ (power), 8 NC

## LME49713MA
designator U?
High Performance, High Fidelity Current Feedback Audio Operational Amplifier; PartNumber: LME49713MA; Manufacturer: National Semiconductor; CompType: Audio IC; PackageTopMarking: NSZXTT*L49713*MA; Published: 4-Dec-2008; DatasheetVersion: Aug-2008; PackageVersion: revL, Sep-2006; PackageReference: M08A; PackageDescription: SOIC Narrow, 4.9 x 3.9 x 1.45mm, 8 Lead, 1.27mm Pitch; RoHS: Y; PinCount: 8; DigiKeyPartNumber: LME49713MA-ND; Code_JEDEC: MS-012-AA; Code_IPC: SOIC127P600-8; ComponentLink1Description: LME49713 Datasheet; ComponentLink1URL: http://www.national.com/ds/LM/LME49713.pdf; ComponentLink2Description: LME49713 Web Page; ComponentLink2URL: http://www.national.com/pf/LM/LME49713.html; ComponentLink3Description: M08A Package Page; ComponentLink3URL: http://www.national.com/packaging/folders/m08a.html
footprint M08A_N (SOIC, 8-Leads, Body 4.9x3.9mm, Pitch 1.27mm, IPC Medium Density)
footprint M08A_L (SOIC, 8-Leads, Body 4.9x3.9mm, Pitch 1.27mm, IPC High Density)
footprint M08A_M (SOIC, 8-Leads, Body 4.9x3.9mm, Pitch 1.27mm, IPC Low Density)
pins: 1 NC, 2 -IN (in), 3 +IN (in), 4 V- (power), 5 NC, 6 OUTPUT (out), 7 V+ (power), 8 NC

## LME49720HA
designator U?
Dual High Performance, High Fidelity Audio Operational Amplifier; PartNumber: LME49720HA; Manufacturer: National Semiconductor; CompType: Audio IC; PackageTopMarking: NSZXYTTE#*LME*49720HA; Published: 4-Dec-2008; DatasheetVersion: Oct-2007; PackageVersion: revF, Jun-1995; PackageReference: H08C; PackageDescription: Metal Can, TO-99, 8 Lead, .200 Dia., P.C.; RoHS: Y; PinCount: 8; DigiKeyPartNumber: LME49720HA-ND; Code_JEDEC: TO-99; ComponentLink1Description: LME49720 Datasheet; ComponentLink1URL: http://www.national.com/ds/LM/LME49720.pdf; ComponentLink2Description: LME49720 Web Page; ComponentLink2URL: http://www.national.com/pf/LM/LME49720.html; ComponentLink3Description: H08C Package Page; ComponentLink3URL: http://www.national.com/packaging/folders/h08c.html
footprint H08C (Can; 8 Leads; Pin Circle Dia. 5.08 mm; Lead Dia. 0.48 mm (max))
pins: 1 OUT A (out), 2 IN A (in), 3 IN A (in), 4 V- (power), 5 IN B (in), 6 IN B (in), 7 OUT B (out), 8 V+ (power)

## LME49720MA
designator U?
Dual High Performance, High Fidelity Audio Operational Amplifier; PartNumber: LME49720MA; Manufacturer: National Semiconductor; CompType: Audio IC; PackageTopMarking: NSZXTT*L49720*MA; Published: 4-Dec-2008; DatasheetVersion: Oct-2007; PackageVersion: revL, Sep-2006; PackageReference: M08A; PackageDescription: SOIC Narrow, 4.9 x 3.9 x 1.45mm, 8 Lead, 1.27mm Pitch; RoHS: Y; PinCount: 8; DigiKeyPartNumber: LME49720MA-ND; Code_JEDEC: MS-012-AA; Code_IPC: SOIC127P600-8; ComponentLink1Description: LME49720 Datasheet; ComponentLink1URL: http://www.national.com/ds/LM/LME49720.pdf; ComponentLink2Description: LME49720 Web Page; ComponentLink2URL: http://www.national.com/pf/LM/LME49720.html; ComponentLink3Description: M08A Package Page; ComponentLink3URL: http://www.national.com/packaging/folders/m08a.html
footprint M08A_N (SOIC, 8-Leads, Body 4.9x3.9mm, Pitch 1.27mm, IPC Medium Density)
footprint M08A_L (SOIC, 8-Leads, Body 4.9x3.9mm, Pitch 1.27mm, IPC High Density)
footprint M08A_M (SOIC, 8-Leads, Body 4.9x3.9mm, Pitch 1.27mm, IPC Low Density)
pins: 1 OUT A (out), 2 IN A (in), 3 IN A (in), 4 V- (power), 5 IN B (in), 6 IN B (in), 7 OUT B (out), 8 V+ (power)

## LME49720NA
designator U?
Dual High Performance, High Fidelity Audio Operational Amplifier; PartNumber: LME49720NA; Manufacturer: National Semiconductor; CompType: Audio IC; PackageTopMarking: NSUZXYTT*LME*49720NA; Published: 4-Dec-2008; DatasheetVersion: Oct-2007; PackageVersion: revG, May-2006; PackageReference: N08E; PackageDescription: MDIP, .365 x .250 x .130in, 8 Lead, .100in Pitch; RoHS: Y; PinCount: 8; DigiKeyPartNumber: LME49720NA-ND; Code_JEDEC: MS-001-BA; ComponentLink1Description: LME49720 Datasheet; ComponentLink1URL: http://www.national.com/ds/LM/LME49720.pdf; ComponentLink2Description: LME49720 Web Page; ComponentLink2URL: http://www.national.com/pf/LM/LME49720.html; ComponentLink3Description: N08E Package Page; ComponentLink3URL: http://www.national.com/packaging/folders/n08e.html
footprint N08E (DIP, 8-Leads, Row Spacing 7.62mm, Pitch 2.54mm, Body 9.91x6.35mm)
pins: 1 OUT A (out), 2 IN A (in), 3 IN A (in), 4 V- (power), 5 IN B (in), 6 IN B (in), 7 OUT B (out), 8 V+ (power)

## LME49721MA
designator U?
High Performance, High Fidelity Rail-to-Rail Input/Output Audio Operational Amplifier; PartNumber: LME49721MA; Manufacturer: National Semiconductor; CompType: Audio IC; PackageTopMarking: NSZXTT*L49721*MA; Published: 4-Dec-2008; DatasheetVersion: Oct-2007; PackageVersion: revL, Sep-2006; PackageReference: M08A; PackageDescription: SOIC Narrow, 4.9 x 3.9 x 1.45mm, 8 Lead, 1.27mm Pitch; RoHS: O; PinCount: 8; DigiKeyPartNumber: LME49721MA-ND; Code_JEDEC: MS-012-AA; Code_IPC: SOIC127P600-8; ComponentLink1Description: LME49721 Datasheet; ComponentLink1URL: http://www.national.com/ds/LM/LME49721.pdf; ComponentLink2Description: LME49721 Web Page; ComponentLink2URL: http://www.national.com/pf/LM/LME49721.html; ComponentLink3Description: M08A Package Page; ComponentLink3URL: http://www.national.com/packaging/folders/m08a.html
footprint M08A_N (SOIC, 8-Leads, Body 4.9x3.9mm, Pitch 1.27mm, IPC Medium Density)
footprint M08A_L (SOIC, 8-Leads, Body 4.9x3.9mm, Pitch 1.27mm, IPC High Density)
footprint M08A_M (SOIC, 8-Leads, Body 4.9x3.9mm, Pitch 1.27mm, IPC Low Density)
pins: 1 OUT A (out), 2 -IN A (in), 3 +IN A (in), 4 VSS (power), 5 +IN B (in), 6 -IN B (in), 7 OUT B (out), 8 VDD (power)

## LME49722MA
designator U?
Low Noise,  High Performance, High Fidelity Dual Audio Operational Amplifier; PartNumber: LME49722MA; Manufacturer: National Semiconductor; CompType: Audio IC; PackageTopMarking: NSZXTT*L49722*MA; Published: 4-Dec-2008; DatasheetVersion: Mar-2008; PackageVersion: revL, Sep-2006; PackageReference: M08A; PackageDescription: SOIC Narrow, 4.9 x 3.9 x 1.45mm, 8 Lead, 1.27mm Pitch; RoHS: Y; PinCount: 8; DigiKeyPartNumber: LME49722MA-ND; Code_JEDEC: MS-012-AA; Code_IPC: SOIC127P600-8; ComponentLink1Description: LME49722 Datasheet; ComponentLink1URL: http://www.national.com/ds/LM/LME49722.pdf; ComponentLink2Description: LME49722 Web Page; ComponentLink2URL: http://www.national.com/pf/LM/LME49722.html; ComponentLink3Description: M08A Package Page; ComponentLink3URL: http://www.national.com/packaging/folders/m08a.html
footprint M08A_N (SOIC, 8-Leads, Body 4.9x3.9mm, Pitch 1.27mm, IPC Medium Density)
footprint M08A_L (SOIC, 8-Leads, Body 4.9x3.9mm, Pitch 1.27mm, IPC High Density)
footprint M08A_M (SOIC, 8-Leads, Body 4.9x3.9mm, Pitch 1.27mm, IPC Low Density)
pins: 1 OUT A (out), 2 IN A (in), 3 IN A (in), 4 V- (power), 5 IN B (in), 6 IN B (in), 7 OUT B (out), 8 V+ (power)

## LME49723MA
designator U?
Dual High Fidelity Audio Operational Amplifier; PartNumber: LME49723MA; Manufacturer: National Semiconductor; CompType: Audio IC; PackageTopMarking: NSZXTT*L49723*MA; Published: 4-Dec-2008; DatasheetVersion: Feb-2008; PackageVersion: revL, Sep-2006; PackageReference: M08A; PackageDescription: SOIC Narrow, 4.9 x 3.9 x 1.45mm, 8 Lead, 1.27mm Pitch; RoHS: Y; PinCount: 8; DigiKeyPartNumber: LME49723MA-ND; Code_JEDEC: MS-012-AA; Code_IPC: SOIC127P600-8; ComponentLink1Description: LME49723 Datasheet; ComponentLink1URL: http://www.national.com/ds/LM/LME49723.pdf; ComponentLink2Description: LME49723 Web Page; ComponentLink2URL: http://www.national.com/pf/LM/LME49723.html; ComponentLink3Description: M08A Package Page; ComponentLink3URL: http://www.national.com/packaging/folders/m08a.html
footprint M08A_N (SOIC, 8-Leads, Body 4.9x3.9mm, Pitch 1.27mm, IPC Medium Density)
footprint M08A_L (SOIC, 8-Leads, Body 4.9x3.9mm, Pitch 1.27mm, IPC High Density)
footprint M08A_M (SOIC, 8-Leads, Body 4.9x3.9mm, Pitch 1.27mm, IPC Low Density)
pins: 1 OUT A (out), 2 IN A (in), 3 IN A (in), 4 V- (power), 5 IN B (in), 6 IN B (in), 7 OUT B (out), 8 V+ (power)

## LME49725MA
designator U?
PowerWise(R) Dual High Performance, High Fidelity Audio Operational Amplifier; PartNumber: LME49725MA; Manufacturer: National Semiconductor; CompType: Audio IC; PackageTopMarking: NSZXTT*L49725*MA; Published: 4-Dec-2008; DatasheetVersion: Apr-2008; PackageVersion: revL, Sep-2006; PackageReference: M08A; PackageDescription: SOIC Narrow, 4.9 x 3.9 x 1.45mm, 8 Lead, 1.27mm Pitch; RoHS: Y; PinCount: 8; DigiKeyPartNumber: LME49725MA-ND; Code_JEDEC: MS-012-AA; Code_IPC: SOIC127P600-8; ComponentLink1Description: LME49725 Datasheet; ComponentLink1URL: http://www.national.com/ds/LM/LME49725.pdf; ComponentLink2Description: LME49725 Web Page; ComponentLink2URL: http://www.national.com/pf/LM/LME49725.html; ComponentLink3Description: M08A Package Page; ComponentLink3URL: http://www.national.com/packaging/folders/m08a.html
footprint M08A_N (SOIC, 8-Leads, Body 4.9x3.9mm, Pitch 1.27mm, IPC Medium Density)
footprint M08A_L (SOIC, 8-Leads, Body 4.9x3.9mm, Pitch 1.27mm, IPC High Density)
footprint M08A_M (SOIC, 8-Leads, Body 4.9x3.9mm, Pitch 1.27mm, IPC Low Density)
pins: 1 OUT A (out), 2 IN A (in), 3 IN A (in), 4 V- (power), 5 IN B (in), 6 IN B (in), 7 OUT B (out), 8 V+ (power)

## LME49726MY
designator U?
High Current, Low Distortion Rail-to-Rail Output Audio Operational Amplifier; PartNumber: LME49726MY; Manufacturer: National Semiconductor; CompType: Audio IC; PackageTopMarking: ZXTT*ZA3; Published: 4-Dec-2008; DatasheetVersion: Nov-2008; PackageVersion: revA, Nov-2003; PackageReference: MUY08A; PackageDescription: Molded Mini-SO, Exposed Pad, .118 x .118 x .034in Body, 8 Lead, .0256in Pitch; RoHS: Y; PinCount: 8; Code_JEDEC: MO-187-AA; ComponentLink1Description: LME49726 Datasheet; ComponentLink1URL: http://www.national.com/ds/LM/LME49726.pdf; ComponentLink2Description: LME49726 Web Page; ComponentLink2URL: http://www.national.com/pf/LM/LME49726.html; ComponentLink3Description: MUY08A Package Page; ComponentLink3URL: http://www.national.com/packaging/folders/muy08a.html
footprint MUY08A_N (TSOP, 8-Leads, Body 3x3mm, Pitch 0.65mm, Exposed Pad, IPC Medium Density)
footprint MUY08A_L (TSOP, 8-Leads, Body 3x3mm, Pitch 0.65mm, Exposed Pad, IPC High Density)
footprint MUY08A_M (TSOP, 8-Leads, Body 3x3mm, Pitch 0.65mm, Exposed Pad, IPC Low Density)
pins: 1 OUT A (out), 2 -IN A (in), 3 +IN A (in), 4 VSS (power), 5 +IN B (in), 6 -IN B (in), 7 OUT B (out), 8 VDD (power), 9 DAP (power)

## LME49740MA
designator U?
Quad High Performance, High Fidelity Audio Operational Amplifier; PartNumber: LME49740MA; Manufacturer: National Semiconductor; CompType: Audio IC; PackageTopMarking: NSUZXYTT*LME49740*MA; Published: 4-Dec-2008; DatasheetVersion: Feb-2008; PackageVersion: revJ, Jan-1996; PackageReference: M14A; PackageDescription: Molded Package S.O., .150in Wide, 14 Lead; RoHS: Y; PinCount: 14; DigiKeyPartNumber: LME49740MA-ND; Code_JEDEC: MS-012AB; Code_IPC: SOIC127P600-14; ComponentLink1Description: LME49740 Datasheet; ComponentLink1URL: http://www.national.com/ds/LM/LME49740.pdf; ComponentLink2Description: LME49740 Web Page; ComponentLink2URL: http://www.national.com/pf/LM/LME49740.html; ComponentLink3Description: M14A Package Page; ComponentLink3URL: http://www.national.com/packaging/folders/m14a.html
footprint M14A_N (SOIC, 14-Leads, Body 8.6x3.9mm, Pitch 1.27mm, IPC Medium Density)
footprint M14A_L (SOIC, 14-Leads, Body 8.6x3.9mm, Pitch 1.27mm, IPC High Density)
footprint M14A_M (SOIC, 14-Leads, Body 8.6x3.9mm, Pitch 1.27mm, IPC Low Density)
pins: 1 OUT1 (out), 2 -IN1 (in), 3 +IN1 (in), 4 V+ (power), 5 +IN2 (in), 6 -IN2 (in), 7 OUT2 (out), 8 OUT3 (out), 9 -IN3 (in), 10 +IN3 (in), 11 V- (power), 12 +IN4 (in), 13 -IN4 (in), 14 OUT4 (out)

## LME49740NA
designator U?
Quad High Performance, High Fidelity Audio Operational Amplifier; PartNumber: LME49740NA; Manufacturer: National Semiconductor; CompType: Audio IC; PackageTopMarking: NSUZXYYTTE#*LME49740NA; Published: 4-Dec-2008; DatasheetVersion: Feb-2008; PackageVersion: revG, May-2006; PackageReference: N14A; PackageDescription: MDIP, .750 x .250 x.130in, 14 Lead, .100in Pitch; RoHS: Y; PinCount: 14; DigiKeyPartNumber: LME49740NA-ND; Code_JEDEC: MS-001-AA; ComponentLink1Description: LME49740 Datasheet; ComponentLink1URL: http://www.national.com/ds/LM/LME49740.pdf; ComponentLink2Description: LME49740 Web Page; ComponentLink2URL: http://www.national.com/pf/LM/LME49740.html; ComponentLink3Description: N14A Package Page; ComponentLink3URL: http://www.national.com/packaging/folders/n14a.html
footprint N14A (DIP, 14-Leads, Row Spacing 7.62mm, Pitch 2.54mm, Body 19.56x6.35mm)
pins: 1 OUT1 (out), 2 -IN1 (in), 3 +IN1 (in), 4 V+ (power), 5 +IN2 (in), 6 -IN2 (in), 7 OUT2 (out), 8 OUT3 (out), 9 -IN3 (in), 10 +IN3 (in), 11 V- (power), 12 +IN4 (in), 13 -IN4 (in), 14 OUT4 (out)